# Altium integrated library micronas.IntLib: 6 symbols
Pins are listed as number, name and electrical type; pins without a type are passive.

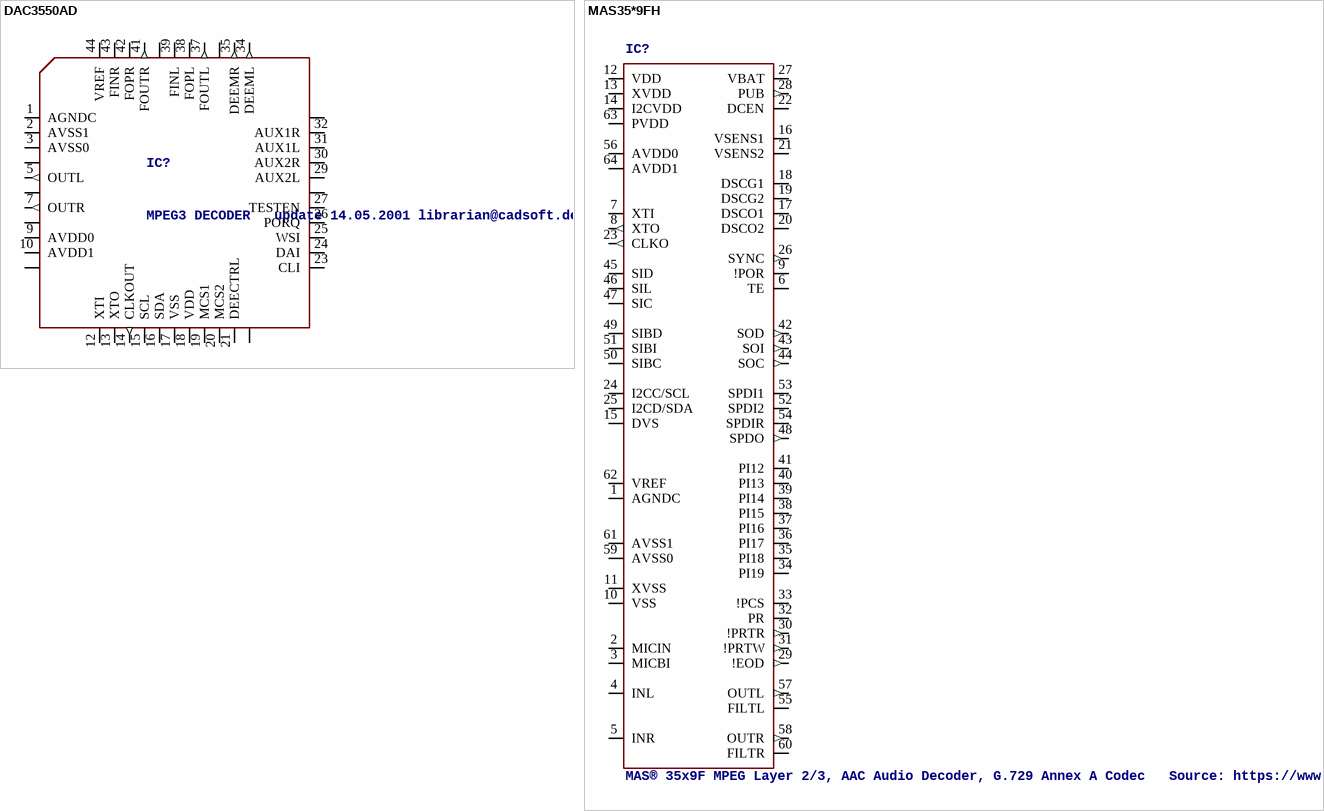
[diagram p0: symbols DAC3550AD to MAS35*9FH]

## DAC3550AD
designator IC?, comment MPEG3 DECODER   update 14.05.2001 librarian@cadsoft.de
OC_FARNELL: unknown; OC_NEWARK: unknown
footprint MQFP44-2
pins: 1 AGNDC, 2 AVSS1, 3 AVSS0, 4 NC4, 5 OUTL (out), 6 NC6, 7 OUTR (out), 8 NC8, 9 AVDD0, 10 AVDD1, 11 NC11, 12 XTI, 13 XTO, 14 CLKOUT (out), 15 SCL, 16 SDA, 17 VSS (power), 18 VDD (power), 19 MCS1, 20 MCS2, 21 DEECTRL, 22 NC22, 23 CLI, 24 DAI, 25 WSI, 26 PORQ, 27 TESTEN, 28 NC28, 29 AUX2L, 30 AUX2R, 31 AUX1L, 32 AUX1R, 33 NC33, 34 DEEML (out), 35 DEEMR (out), 36 NC36, 37 FOUTL (out), 38 FOPL, 39 FINL, 40 NC40, 41 FOUTR (out), 42 FOPR, 43 FINR, 44 VREF

## MAS35*9FH
designator IC?, comment MAS® 35x9F MPEG Layer 2/3, AAC Audio Decoder, G.729 Annex A Codec   Source: https://www.micronas.com .. mas35x9f_3ds.pdf
OC_FARNELL: unknown; OC_NEWARK: unknown
footprint PLQFP64-1
pins: 1 AGNDC (power), 2 MICIN, 3 MICBI, 4 INL, 5 INR, 6 TE, 7 XTI, 8 XTO (out), 9 !POR, 10 VSS, 11 XVSS, 12 VDD, 13 XVDD, 14 I2CVDD, 15 DVS, 16 VSENS1, 17 DSCO1 (power), 18 DSCG1 (power), 19 DSCG2 (power), 20 DSCO2 (power), 21 VSENS2, 22 DCEN, 23 CLKO (out), 24 I2CC/SCL, 25 I2CD/SDA, 26 SYNC (out), 27 VBAT, 28 PUB (out), 29 !EOD (out), 30 !PRTR (out), 31 !PRTW (out), 32 PR, 33 !PCS, 34 PI19, 35 PI18, 36 PI17, 37 PI16, 38 PI15, 39 PI14, 40 PI13, 41 PI12, 42 SOD (out), 43 SOI (out), 44 SOC (out), 45 SID, 46 SIL, 47 SIC, 48 SPDO (out), 49 SIBD, 50 SIBC, 51 SIBI, 52 SPDI2, 53 SPDI1, 54 SPDIR, 55 FILTL, 56 AVDD0, 57 OUTL (out), 58 OUTR (out), 59 AVSS0 (power), 60 FILTR, 61 AVSS1 (power), 62 VREF, 63 PVDD (power), 64 AVDD1 (power)

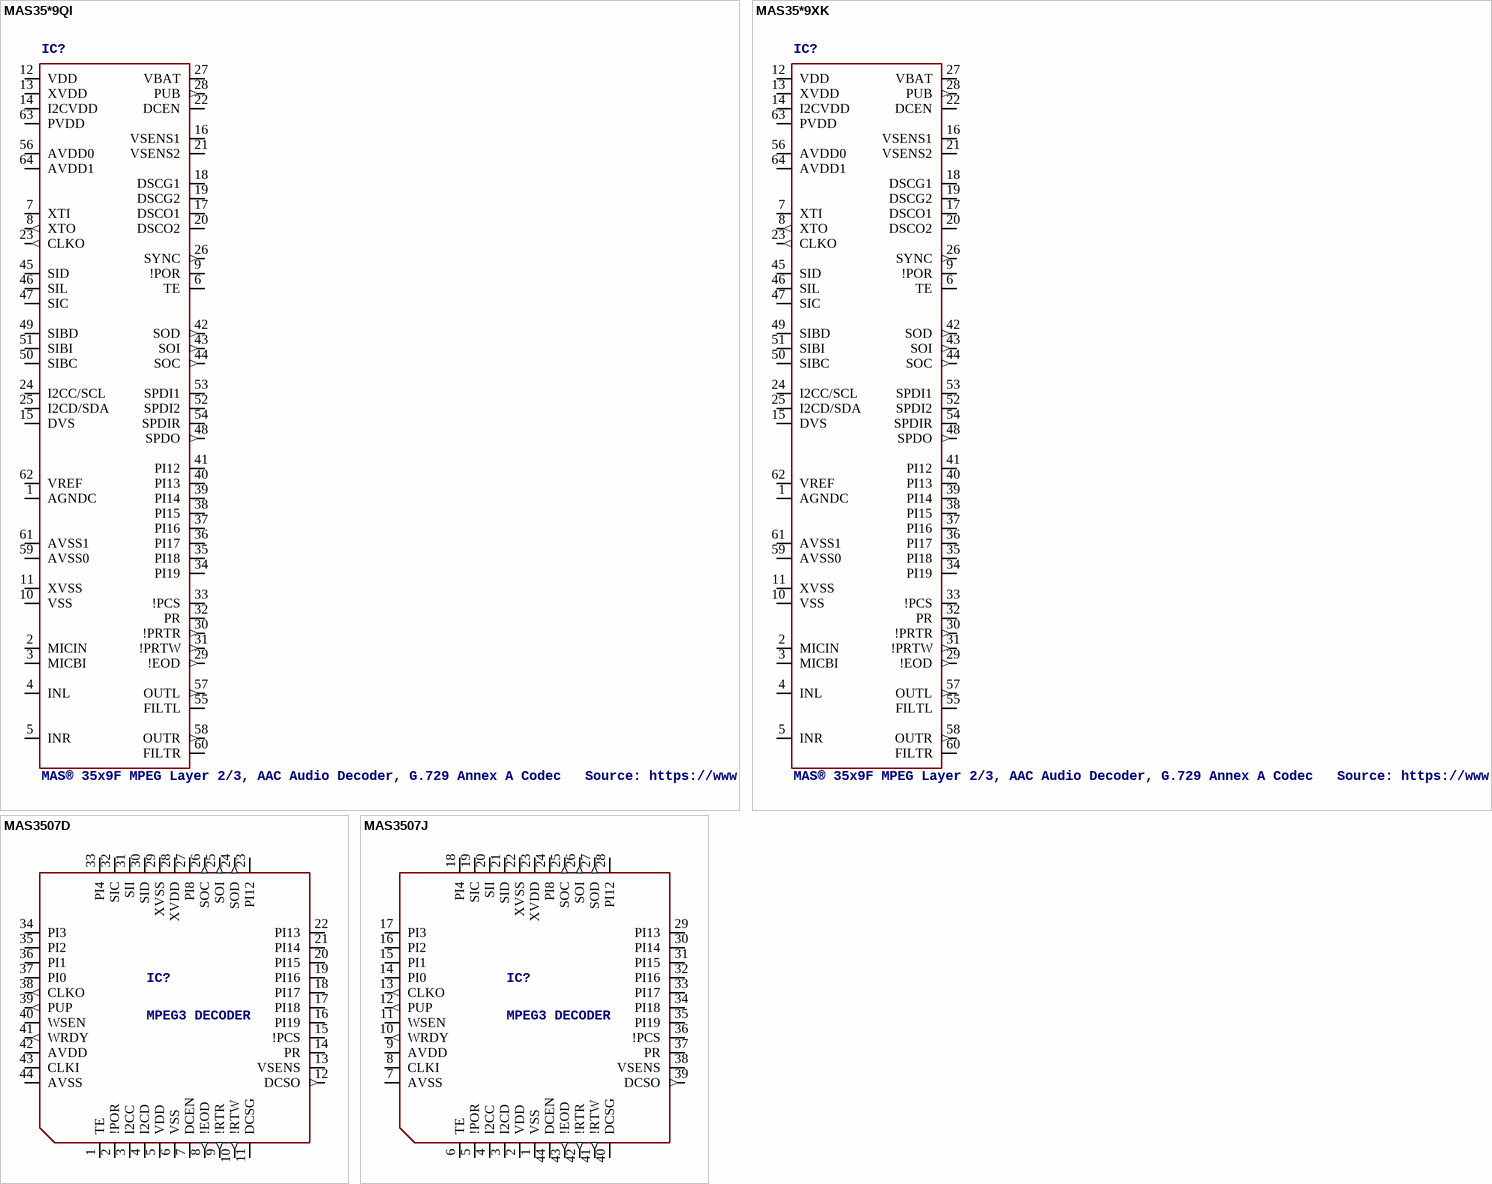
[diagram p1: symbols MAS35*9QI to MAS3507J]

## MAS35*9QI
designator IC?, comment MAS® 35x9F MPEG Layer 2/3, AAC Audio Decoder, G.729 Annex A Codec   Source: https://www.micronas.com .. mas35x9f_3ds.pdf
OC_FARNELL: unknown; OC_NEWARK: unknown
footprint PMQFP64-2
pins: 1 AGNDC (power), 2 MICIN, 3 MICBI, 4 INL, 5 INR, 6 TE, 7 XTI, 8 XTO (out), 9 !POR, 10 VSS, 11 XVSS, 12 VDD, 13 XVDD, 14 I2CVDD, 15 DVS, 16 VSENS1, 17 DSCO1 (power), 18 DSCG1 (power), 19 DSCG2 (power), 20 DSCO2 (power), 21 VSENS2, 22 DCEN, 23 CLKO (out), 24 I2CC/SCL, 25 I2CD/SDA, 26 SYNC (out), 27 VBAT, 28 PUB (out), 29 !EOD (out), 30 !PRTR (out), 31 !PRTW (out), 32 PR, 33 !PCS, 34 PI19, 35 PI18, 36 PI17, 37 PI16, 38 PI15, 39 PI14, 40 PI13, 41 PI12, 42 SOD (out), 43 SOI (out), 44 SOC (out), 45 SID, 46 SIL, 47 SIC, 48 SPDO (out), 49 SIBD, 50 SIBC, 51 SIBI, 52 SPDI2, 53 SPDI1, 54 SPDIR, 55 FILTL, 56 AVDD0, 57 OUTL (out), 58 OUTR (out), 59 AVSS0 (power), 60 FILTR, 61 AVSS1 (power), 62 VREF, 63 PVDD (power), 64 AVDD1 (power)

## MAS35*9XK
designator IC?, comment MAS® 35x9F MPEG Layer 2/3, AAC Audio Decoder, G.729 Annex A Codec   Source: https://www.micronas.com .. mas35x9f_3ds.pdf
OC_FARNELL: unknown; OC_NEWARK: unknown
footprint PQFN64-1
pins: 1 AGNDC (power), 2 MICIN, 3 MICBI, 4 INL, 5 INR, 6 TE, 7 XTI, 8 XTO (out), 9 !POR, 10 VSS, 11 XVSS, 12 VDD, 13 XVDD, 14 I2CVDD, 15 DVS, 16 VSENS1, 17 DSCO1 (power), 18 DSCG1 (power), 19 DSCG2 (power), 20 DSCO2 (power), 21 VSENS2, 22 DCEN, 23 CLKO (out), 24 I2CC/SCL, 25 I2CD/SDA, 26 SYNC (out), 27 VBAT, 28 PUB (out), 29 !EOD (out), 30 !PRTR (out), 31 !PRTW (out), 32 PR, 33 !PCS, 34 PI19, 35 PI18, 36 PI17, 37 PI16, 38 PI15, 39 PI14, 40 PI13, 41 PI12, 42 SOD (out), 43 SOI (out), 44 SOC (out), 45 SID, 46 SIL, 47 SIC, 48 SPDO (out), 49 SIBD, 50 SIBC, 51 SIBI, 52 SPDI2, 53 SPDI1, 54 SPDIR, 55 FILTL, 56 AVDD0, 57 OUTL (out), 58 OUTR (out), 59 AVSS0 (power), 60 FILTR, 61 AVSS1 (power), 62 VREF, 63 PVDD (power), 64 AVDD1 (power)

## MAS3507D
designator IC?, comment MPEG3 DECODER
OC_FARNELL: unknown; OC_NEWARK: unknown
footprint MQFP44-2
pins: 1 TE, 2 !POR, 3 I2CC, 4 I2CD, 5 VDD (power), 6 VSS (power), 7 DCEN, 8 !EOD (out), 9 !RTR (out), 10 !RTW (out), 11 DCSG (power), 12 DCSO (out), 13 VSENS, 14 PR, 15 !PCS, 16 PI19, 17 PI18, 18 PI17, 19 PI16, 20 PI15, 21 PI14, 22 PI13, 23 PI12, 24 SOD (out), 25 SOI (out), 26 SOC (out), 27 PI8, 28 XVDD (power), 29 XVSS (power), 30 SID, 31 SII, 32 SIC, 33 PI4, 34 PI3, 35 PI2, 36 PI1, 37 PI0, 38 CLKO (out), 39 PUP (out), 40 WSEN, 41 WRDY (out), 42 AVDD (power), 43 CLKI, 44 AVSS (power)

## MAS3507J
designator IC?, comment MPEG3 DECODER
OC_FARNELL: unknown; OC_NEWARK: unknown
footprint PLCC44
pins: 1 VSS (power), 2 VDD (power), 3 I2CD, 4 I2CC, 5 !POR, 6 TE, 7 AVSS (power), 8 CLKI, 9 AVDD (power), 10 WRDY (out), 11 WSEN, 12 PUP (out), 13 CLKO (out), 14 PI0, 15 PI1, 16 PI2, 17 PI3, 18 PI4, 19 SIC, 20 SII, 21 SID, 22 XVSS (power), 23 XVDD (power), 24 PI8, 25 SOC (out), 26 SOI (out), 27 SOD (out), 28 PI12, 29 PI13, 30 PI14, 31 PI15, 32 PI16, 33 PI17, 34 PI18, 35 PI19, 36 !PCS, 37 PR, 38 VSENS, 39 DCSO (out), 40 DCSG (power), 41 !RTW (out), 42 !RTR (out), 43 !EOD (out), 44 DCEN